# Altium footprint library MergenElektronik_Interfaces_RS232s.PcbLib: 1 footprints
Each footprint in its own frame and in the unit in brackets; x right, y up, seen from the top. Pads: shape width x height; smd on the part's side, far side on the other; paste and mask are expansions set on the pad; w line width, h text height; cw(c..) or ccw(c..) is an arc to the next point about the centre after c.
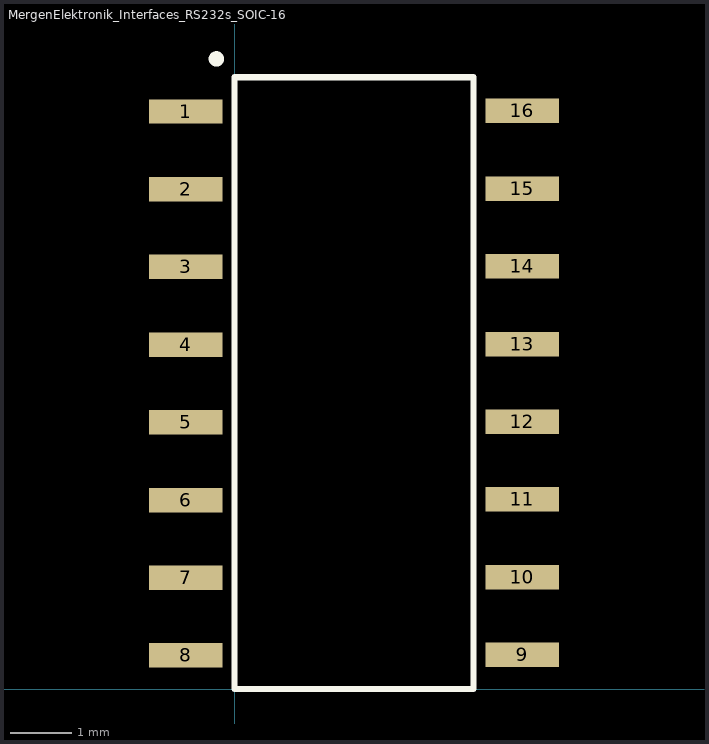
[diagram p0: the footprint, top view; thin cyan lines are the x and y axes]

## MergenElektronik_Interfaces_RS232s_SOIC-16 [mm] "SOIC-16"
pads (16):
  rect 1.2x0.4 smd: 1(-0.8,9.44) 2(-0.8,8.17) 3(-0.8,6.9) 4(-0.8,5.63) 5(-0.8,4.36) 6(-0.8,3.09) 7(-0.8,1.82) 8(-0.8,0.55) 9(4.7,0.56) 10(4.7,1.83) 11(4.7,3.1) 12(4.7,4.37) 13(4.7,5.64) 14(4.7,6.91) 15(4.7,8.18) 16(4.7,9.45)
Top Overlay:
  circle w0.15: c-0.3,10.3 r0.05
  lines w0.1: 0,0 3.9,0 3.9,10 0,10 0,0
3D body "MAX3232ESE_.step": height 1.75, standoff 0, extent -1.05,0.05 4.95,9.95